# EAGLE library part MAX3232CPE+ (library SamacSys_Parts)
RS232 transceiver,MAX3232CPE 2T/2R,BP MAX3232CPE+, Line Transceiver, EIA/TIA-562, EIA/TIA-232, RS-232 2-TX 2-RX 2-TRX, 3.3 V, 5 V, 16-Pin PDIP Source: Datasheet <http://datasheets.maximintegrated.com/en/ds/MAX3222-MAX3241.pdf>
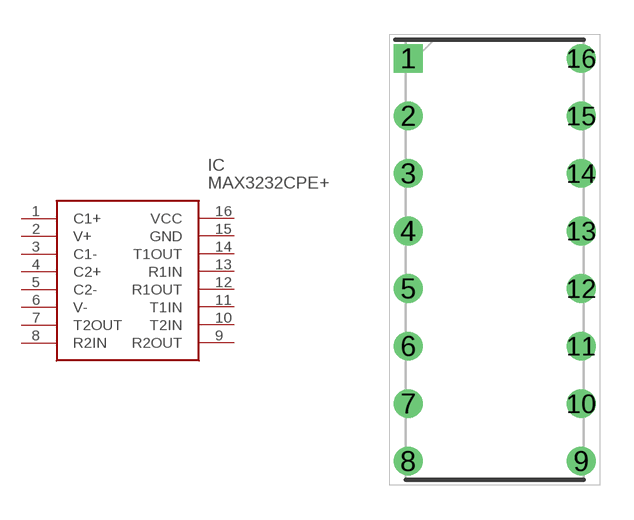
[diagram p11: symbol with the pads of DIP762W56P254L1918H457Q16N; footprint DIP762W56P254L1918H457Q16N]

Designator prefix IC

## MAX3232CPE+ (DESCRIPTION: RS232 transceiver,MAX3232CPE 2T/2R,BP MAX3232CPE+, Line Transceiver, EIA/TIA-562, EIA/TIA-232, RS-232 2-TX 2-RX 2-TRX, 3.3 V, 5 V, 16-Pin PDIP; HEIGHT: 4.572mm; MANUFACTURER_NAME: Analog Devices; MANUFACTURER_PART_NUMBER: MAX3232CPE+; MOUSER_PART_NUMBER: 700-MAX3232CPE; MOUSER_PRICE-STOCK: https://www.mouser.co.uk/ProductDetail/Analog-Devices-Maxim-Integrated/MAX3232CPE%2b?qs=1THa7WoU59HyxJw9banLTQ%3D%3D)  [DIP762W56P254L1918H457Q16N]
1  C1+
2  V+  pwr
3  C1-
4  C2+
5  C2-
6  V-  pwr
7  T2OUT  out
8  R2IN  in
9  R2OUT  out
10  T2IN  in
11  T1IN  in
12  R1OUT  out
13  R1IN  in
14  T1OUT  out
15  GND  pwr
16  VCC  pwr

## Footprint DIP762W56P254L1918H457Q16N (pad centres in mm)
16 PDIP
drill 0.76 pad 1.16 square: 1 -3.81,8.89
drill 0.76 pad 1.16: 2 -3.81,6.35; 3 -3.81,3.81; 4 -3.81,1.27; 5 -3.81,-1.27; 6 -3.81,-3.81; 7 -3.81,-6.35; 8 -3.81,-8.89; 9 3.81,-8.89; 10 3.81,-6.35; 11 3.81,-3.81; 12 3.81,-1.27; 13 3.81,1.27; 14 3.81,3.81; 15 3.81,6.35; 16 3.81,8.89